# Altium footprint library electrodragon.PcbLib: 1 footprints
Each footprint in its own frame and in the unit in brackets; x right, y up, seen from the top. Pads: shape width x height; smd on the part's side, far side on the other; paste and mask are expansions set on the pad; w line width, h text height; cw(c..) or ccw(c..) is an arc to the next point about the centre after c.
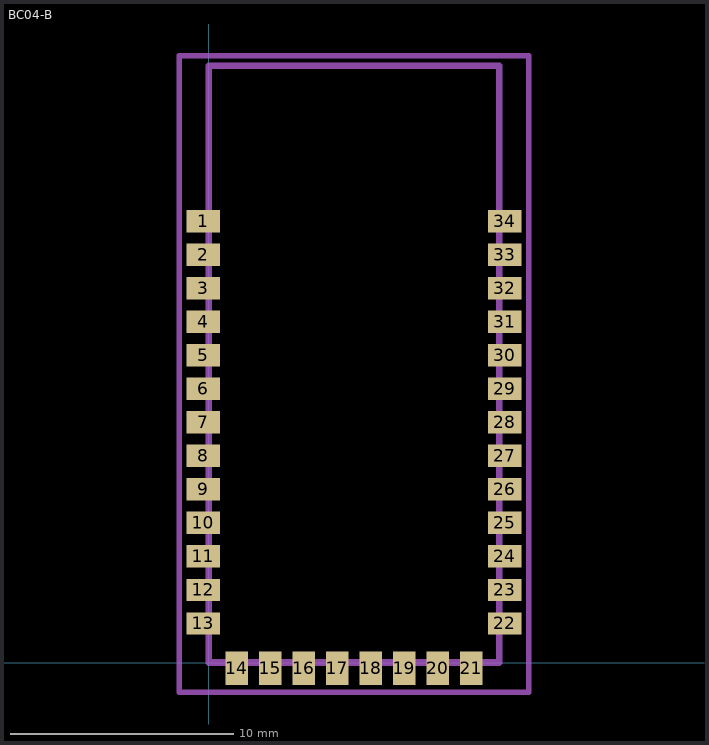
[diagram p0: the footprint, top view; thin cyan lines are the x and y axes]

## BC04-B [mm]
pads (34):
  rect 1.5x1 smd: 1(-0.25,19.75) 2(-0.25,18.25) 3(-0.25,16.75) 4(-0.25,15.25) 5(-0.25,13.75) 6(-0.25,12.25) 7(-0.25,10.75) 8(-0.25,9.25) 9(-0.25,7.75) 10(-0.25,6.25) 11(-0.25,4.75) 12(-0.25,3.25) 13(-0.25,1.75) 22(13.25,1.75) 23(13.25,3.25) 24(13.25,4.75) 25(13.25,6.25) 26(13.25,7.75) 27(13.25,9.25) 28(13.25,10.75) 29(13.25,12.25) 30(13.25,13.75) 31(13.25,15.25) 32(13.25,16.75) 33(13.25,18.25) 34(13.25,19.75)
  rect 1x1.5 smd: 14(1.25,-0.25) 15(2.75,-0.25) 16(4.25,-0.25) 17(5.75,-0.25) 18(7.25,-0.25) 19(8.75,-0.25) 20(10.25,-0.25) 21(11.75,-0.25)
Mechanical 13:
  lines w0.3: 0,0 13,0 13,26.7 0,26.7 0,0
Mechanical 15:
  lines w0.25: -1.325,-1.325 14.325,-1.325 14.325,27.15 -1.325,27.15 -1.325,-1.325
3D body "PCB1.x_t": height 1.77, standoff 0.09, extent 0,0 13,26.7
3D body: height 0.6, standoff 0.1, extent 11.5,20.75 12,25.75
3D body: height 0.6, standoff 0.1, extent 10,23.25 10.5,23.75
3D body: height 0.6, standoff 0.1, extent 8,23.25 8.5,23.75
3D body: height 0.6, standoff 0.1, extent 4,23.25 4.5,23.75
3D body: height 0.6, standoff 0.1, extent 6,23.25 6.5,23.75
3D body: height 0.6, standoff 0.1, extent 2,23.25 2.5,23.75
3D body: height 0.6, standoff 0.1, extent 10.5,23.25 11,25.75
3D body: height 0.6, standoff 0.1, extent 9.5,23.25 10,25.75
3D body: height 0.6, standoff 0.1, extent 8.5,23.25 9,25.75
3D body: height 0.6, standoff 0.1, extent 7.5,23.25 8,25.75
3D body: height 0.6, standoff 0.1, extent 6.5,23.25 7,25.75
3D body: height 0.6, standoff 0.1, extent 4.5,23.25 5,25.75
3D body: height 0.6, standoff 0.1, extent 5.5,23.25 6,25.75
3D body: height 0.6, standoff 0.1, extent 2.5,23.25 3,25.75
3D body: height 0.6, standoff 0.1, extent 3.5,23.25 4,25.75
3D body: height 0.6, standoff 0.1, extent 1.5,23.25 2,25.75
3D body: height 0.6, standoff 0.1, extent 11,25.25 11.5,25.75
3D body: height 0.6, standoff 0.1, extent 9,25.25 9.5,25.75
3D body: height 0.6, standoff 0.1, extent 7,25.25 7.5,25.75
3D body: height 0.6, standoff 0.1, extent 5,25.25 5.5,25.75
3D body: height 0.6, standoff 0.1, extent 3,25.25 3.5,25.75
3D body: height 0.6, standoff 0.1, extent 1,25.25 1.5,25.75